# EAGLE library part FPC052002-12LT (library Connector)
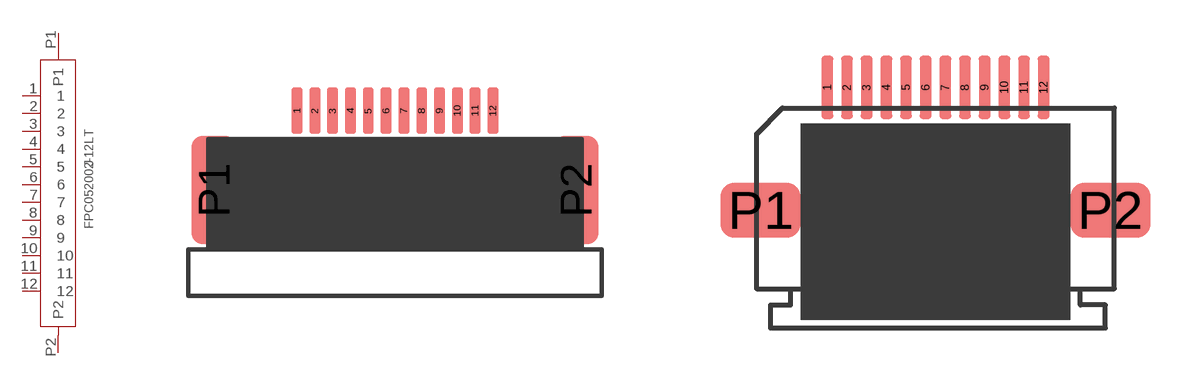
[diagram p17: symbol with the pads of 12P-0.5; footprints 12P-0.5, 12P-0.5-NEW]

Designator prefix J

## FPC052002-12LT'0.5'  [12P-0.5]
1  1
2  2
3  3
4  4
5  5
6  6
7  7
8  8
9  9
10  10
11  11
12  12
P1  P1
P2  P2

## FPC052002-12LT-FH12-12S-0.5SH  [12P-0.5-NEW]
Pads as for 12P-0.5

## FPC052002-12LT'TF31-12S-0.5SH'  [12P-SMD-0.5-90D]
Pads as for 12P-0.5

## Footprint 12P-0.5 (pad centres in mm)
smd 0.3 x 1.3: 1 -2.75,2.35; 2 -2.25,2.35; 3 -1.75,2.35; 4 -1.25,2.35; 5 -0.75,2.35; 6 -0.25,2.35; 7 0.25,2.35; 8 0.75,2.35; 9 1.25,2.35; 10 1.75,2.35; 11 2.25,2.35; 12 2.75,2.35
smd 1.27 x 3.048: P1 -5.08,0.127; P2 5.08,0.127

## Footprint 12P-0.5-NEW (pad centres in mm)
smd 0.3 x 1.6: 1 -2.75,3.127; 2 -2.25,3.127; 3 -1.75,3.127; 4 -1.25,3.127; 5 -0.75,3.127; 6 -0.25,3.127; 7 0.25,3.127; 8 0.75,3.127; 9 1.25,3.127; 10 1.75,3.127; 11 2.25,3.127; 12 2.75,3.127
smd 2.032 x 1.397: P1 -4.445,0; P2 4.445,0

## Footprint 12P-SMD-0.5-90D (pad centres in mm)
smd 0.3 x 1.2: 1 -2.75,0; 2 -2.25,0; 3 -1.75,0; 4 -1.25,0; 5 -0.75,0; 6 -0.25,0; 7 0.25,0; 8 0.75,0; 9 1.25,0; 10 1.75,0; 11 2.25,0; 12 2.75,0
smd 0.4 x 3: P1 -4.4,-4; P2 4.4,-4